# Altium schematic symbol library ic.SchLib: 24 symbols
Pins are listed as number, name and electrical type; pins without a type are passive.

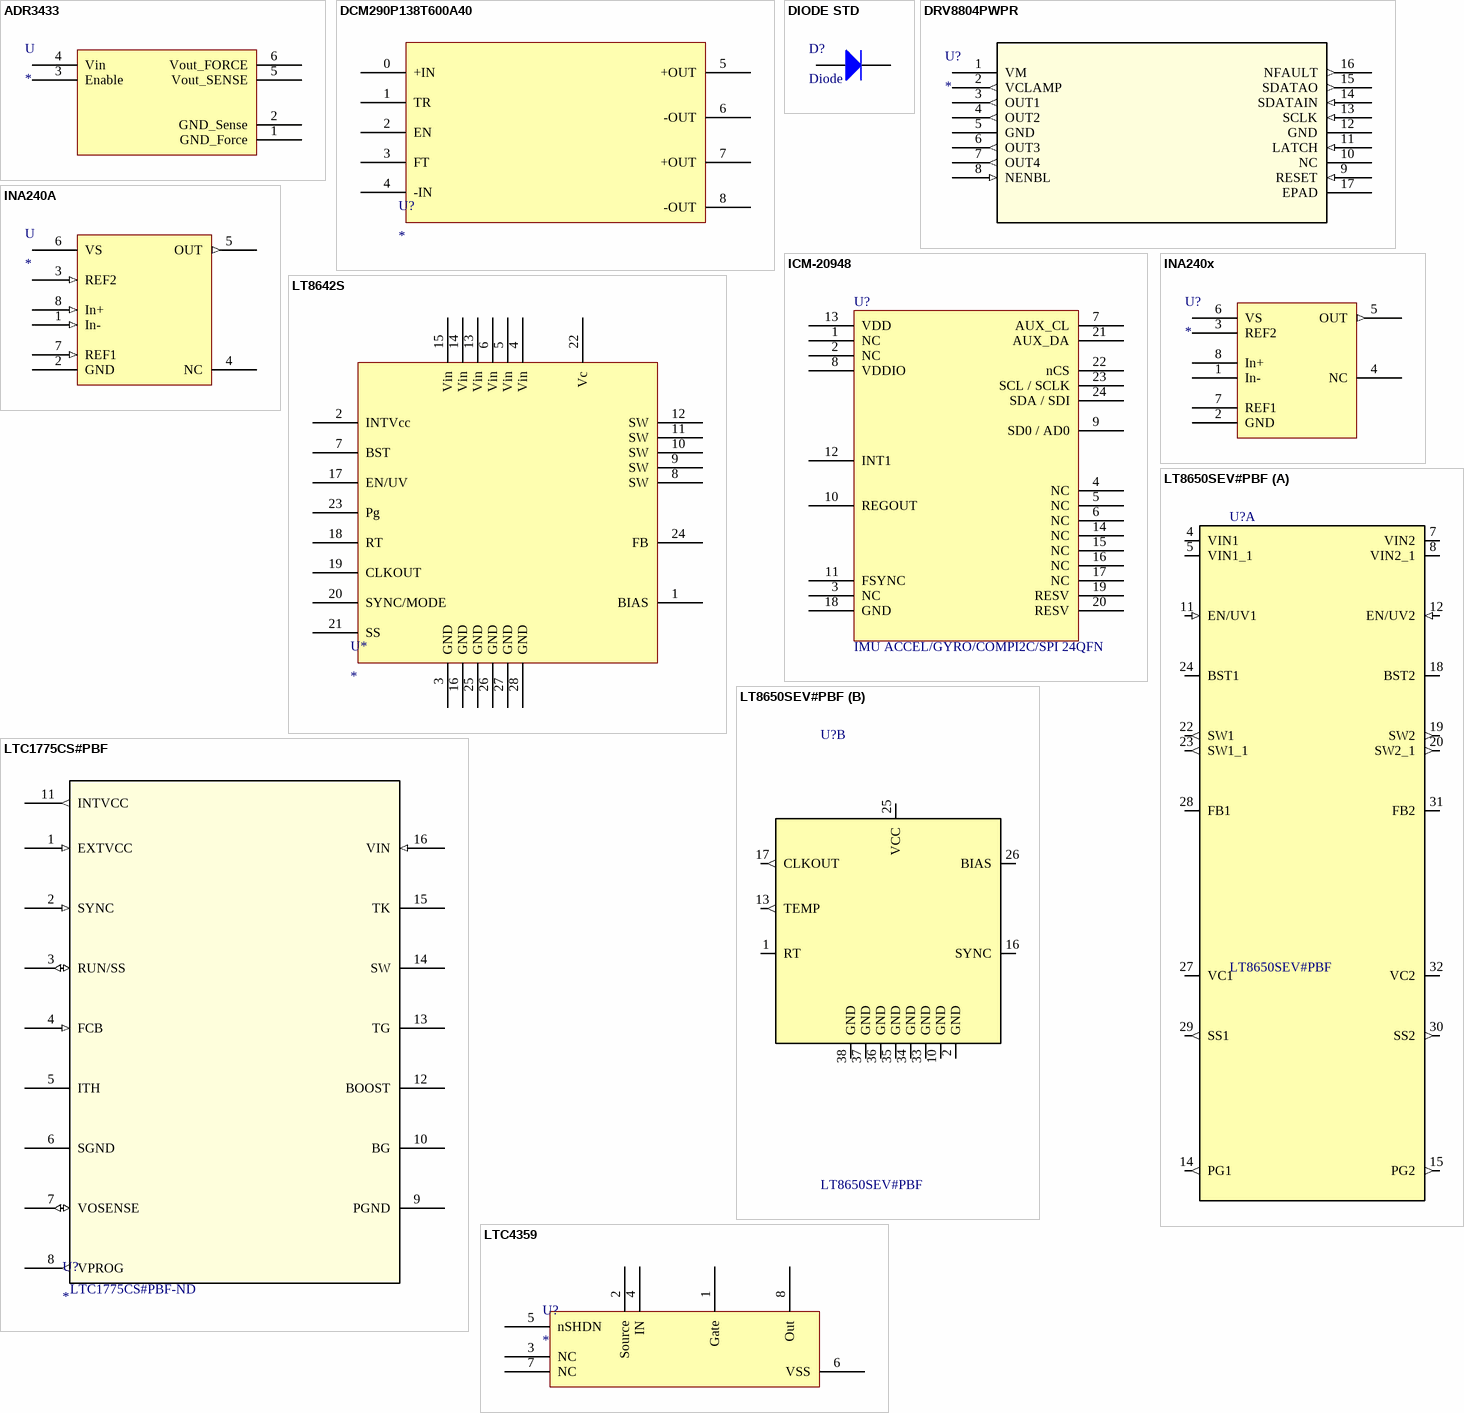
[diagram p0: symbols ADR3433 to LTC4359]

## ADR3433
designator U
IC VREF SERIES 3.3V SOT23-6; Manufacturer: Analog Devices; Manufacturer P/N: ADR3433ARJZ-R7; ComponentLink1Description: Digikey; ComponentLink1URL: https://www.digikey.com/product-detail/en/analog-devices-inc/ADR3433ARJZ-R7/ADR3433ARJZ-R7CT-ND/4909083; Digikey Link: https://www.digikey.com/product-detail/en/analog-devices-inc/ADR3433ARJZ-R7/ADR3433ARJZ-R7CT-ND/4909083; Digikey P/N: ADR3433ARJZ-R7CT-ND
footprint SOT95P280X145-6N (SOT23, 6-Leads, Body 2.90x2.80mm, Pitch 0.95mm, IPC Medium Density)
pins: 1 GND_Force (power), 2 GND_Sense (power), 3 Enable, 4 Vin, 5 Vout_SENSE, 6 Vout_FORCE

## DCM290P138T600A40
designator U?
DC DC CONVERTER 13.8V 600W; Manufacturer: Vicor; Manufacturer P/N: DCM290P138T600A40; Digikey Link: https://www.digikey.com/product-detail/en/vicor-corporation/DCM290P138T600A40/1102-5388-ND/4860626; Digikey P/N: 1102-5388-ND
footprint DCM290y138x600A40
pins: 0 +IN, 1 TR, 2 EN, 3 FT, 4 -IN, 5 +OUT, 6 -OUT, 7 +OUT, 8 -OUT

## DIODE STD
designator D?, comment Diode
DIODE GEN PURP 200V 2A SOD123FL; Manufacturer: ON SEMI; Manufacturer P/N: NHP220SFT3G; Digikey Link: https://www.digikey.com/product-detail/en/on-semiconductor/NHP220SFT3G/NHP220SFT3GOSCT-ND/5801747; Digikey P/N: NHP220SFT3GOSCT-ND
footprint SODFL360X110-2N (SODFL, 2-Leads, Body 1.65x3.60mm, IPC Medium Density)
pins: 1 A, 2 K

## DRV8804PWPR
designator U?
IC MOTOR DRIVER SERIAL 16HTSSOP; Manufacturer: Texas Instruments; Manufacturer P/N: DRV8804PWPR; Built_By: EMA_UL_Team; C: Copyright (C) 2015 Accelerated Designs. All rights reserved; RefDes: RefDes; Type: DEV; Value: Value; Digikey P/N: 296-36584-1-ND; Digikey Link: https://www.digikey.sg/product-detail/en/texas-instruments/DRV8804PWPR/296-36584-1-ND/4341280
footprint PWP16_3P4X2P46-M
pins: 1 VM (power), 2 VCLAMP (out), 3 OUT1 (out), 4 OUT2 (out), 5 GND (power), 6 OUT3 (out), 7 OUT4 (out), 8 NENBL (in), 9 RESET (in), 10 NC, 11 LATCH (in), 12 GND (power), 13 SCLK (in), 14 SDATAIN (in), 15 SDATAO (out), 16 NFAULT (out), 17 EPAD

## ICM-20948
designator U?, comment IMU ACCEL/GYRO/COMPI2C/SPI 24QFN
Manufacturer: TDK InvenSense; Manufacturer P/N: ICM-20948; Digikey Link: https://www.digikey.com/product-detail/en/tdk-invensense/ICM-20948/1428-1123-1-ND/7062698; Digikey P/N: 1428-1123-1-ND
footprint QFN40P300X300X105-25N
footprint QFN40P300X300X105_HS-25N (QFN, 24-Leads, Body 3.00x3.00mm, Pitch 0.40mm, Thermal Pad 1.70x1.54mm, IPC Medium Density)
pins: 1 NC, 2 NC, 3 NC, 4 NC, 5 NC, 6 NC, 7 AUX_CL, 8 VDDIO, 9 SD0 / AD0, 10 REGOUT, 11 FSYNC, 12 INT1, 13 VDD, 14 NC, 15 NC, 16 NC, 17 NC, 18 GND, 19 RESV, 20 RESV, 21 AUX_DA, 22 nCS, 23 SCL / SCLK, 24 SDA / SDI

## INA240A
designator U
IC AMP CURRENT SENSE 8-TSSOP; Manufacturer: TI; Manufacturer P/N: INA240A1PWR; Digikey P/N: 296-45088-1-ND; Digikey Link: https://www.digikey.com/product-detail/en/texas-instruments/INA240A1PWR/296-45088-1-ND/6562101
footprint SOIC127P600X175-8N (SOIC, 8-Leads, Body 4.90x3.90mm, Pitch 1.27mm, IPC Medium Density)
pins: 1 In- (in), 2 GND (power), 3 REF2 (in), 4 NC, 5 OUT (out), 6 VS (power), 7 REF1 (in), 8 In+ (in)

## INA240x
designator U?
IC AMP CURRENT SENSE 8-TSSOP; Manufacturer: TI; Manufacturer P/N: INA240A1PWR; Digikey P/N: 296-45088-1-ND; Digikey Link: https://www.digikey.com/product-detail/en/texas-instruments/INA240A1PWR/296-45088-1-ND/6562101
footprint SOIC127P600X175-8N (SOIC, 8-Leads, Body 4.90x3.90mm, Pitch 1.27mm, IPC Medium Density)
pins: 1 In-, 2 GND (power), 3 REF2, 4 NC, 5 OUT (out), 6 VS (power), 7 REF1, 8 In+

## LT8642S
designator U*
18V, 10A Synchronous / Step-Down Silent Switcher 2
footprint QFN50P400X400X72_HS-25N (QFN, 24-Leads, Body 4.00x4.00mm, Pitch 0.50mm, Thermal Pad 2.45x2.45mm, IPC Medium Density)
pins: 1 BIAS, 2 INTVcc, 3 GND (power), 4 Vin (power), 5 Vin (power), 6 Vin (power), 7 BST, 8 SW, 9 SW, 10 SW, 11 SW, 12 SW, 13 Vin (power), 14 Vin (power), 15 Vin (power), 16 GND (power), 17 EN/UV, 18 RT, 19 CLKOUT, 20 SYNC/MODE, 21 SS, 22 Vc, 23 Pg, 24 FB, 25 GND (power), 26 GND (power), 27 GND (power), 28 GND (power)

## LT8650SEV#PBF
designator U?
LT8650S - Dual Channel 4A, 42V, Synchronous Step-Down Silent Switcher 2 with 6.2ÂµA Quiescent Current; MF: Linear Technology; MP: LT8650SEV#PBF; SnapEDA_Link: https://www.snapeda.com/parts/LT8650SEV%23PBF/Linear%20Technology/Analog%20Devices/view-part/?ref=snap; Digi-Key_Part_Number: LT8650SEV#PBF-ND; Package: LQFN-32 Linear Technology; Digi-Key_Purchase_URL: https://www.digikey.com/product-detail/en/linear-technology-analog-devices/LT8650SEV-PBF/LT8650SEV-PBF-ND/7702365?utm_source=snapeda&utm_medium=aggregator&utm_campaign=symbol; Value: *
footprint QFN50P600X400X103-32N240X440
part A pins: 4 VIN1 (power), 5 VIN1_1 (power), 7 VIN2 (power), 8 VIN2_1 (power), 11 EN/UV1 (in), 12 EN/UV2 (in), 14 PG1 (out), 15 PG2 (out), 18 BST2 (io), 19 SW2 (out), 20 SW2_1 (out), 22 SW1 (out), 23 SW1_1 (out), 24 BST1 (io), 27 VC1 (power), 28 FB1 (io), 29 SS1 (out), 30 SS2 (out), 31 FB2 (io), 32 VC2 (power)
part B pins: 1 RT, 2 GND, 10 GND, 13 TEMP (out), 16 SYNC, 17 CLKOUT (out), 25 VCC, 26 BIAS (io), 33 GND, 34 GND, 35 GND, 36 GND, 37 GND, 38 GND

## LTC1775CS#PBF
designator U?  Supplier Part Number 1: LTC1775CS#PBF-ND
Imported; Manufacturer_Part_Number: LTC1775CS#PBF; Vendor: Linear Technology; RefDes: RefDes; Type: DEV; Value: Value; Supplier 1: Digi-Key
footprint SO-16_S
pins: 1 EXTVCC (in), 2 SYNC (in), 3 RUN/SS (io), 4 FCB (in), 5 ITH, 6 SGND (power), 7 VOSENSE (io), 8 VPROG (out), 9 PGND (power), 10 BG, 11 INTVCC (out), 12 BOOST, 13 TG, 14 SW, 15 TK, 16 VIN (in)

## LTC4359
designator U?
IC OR CTRLR N+1 8MSOP; Manufacturer: Analog Devices; Manufacturer P/N: LTC4359; Digikey Link: https://www.digikey.com/product-detail/en/linear-technology-analog-devices/LTC4359HMS8-TRPBF/LTC4359HMS8-TRPBFCT-ND/8275335; Digikey P/N: LTC4359HMS8#TRPBFCT-ND
footprint 8SOP
pins: 1 Gate, 2 Source, 3 NC, 4 IN, 5 nSHDN, 6 VSS, 7 NC, 8 Out

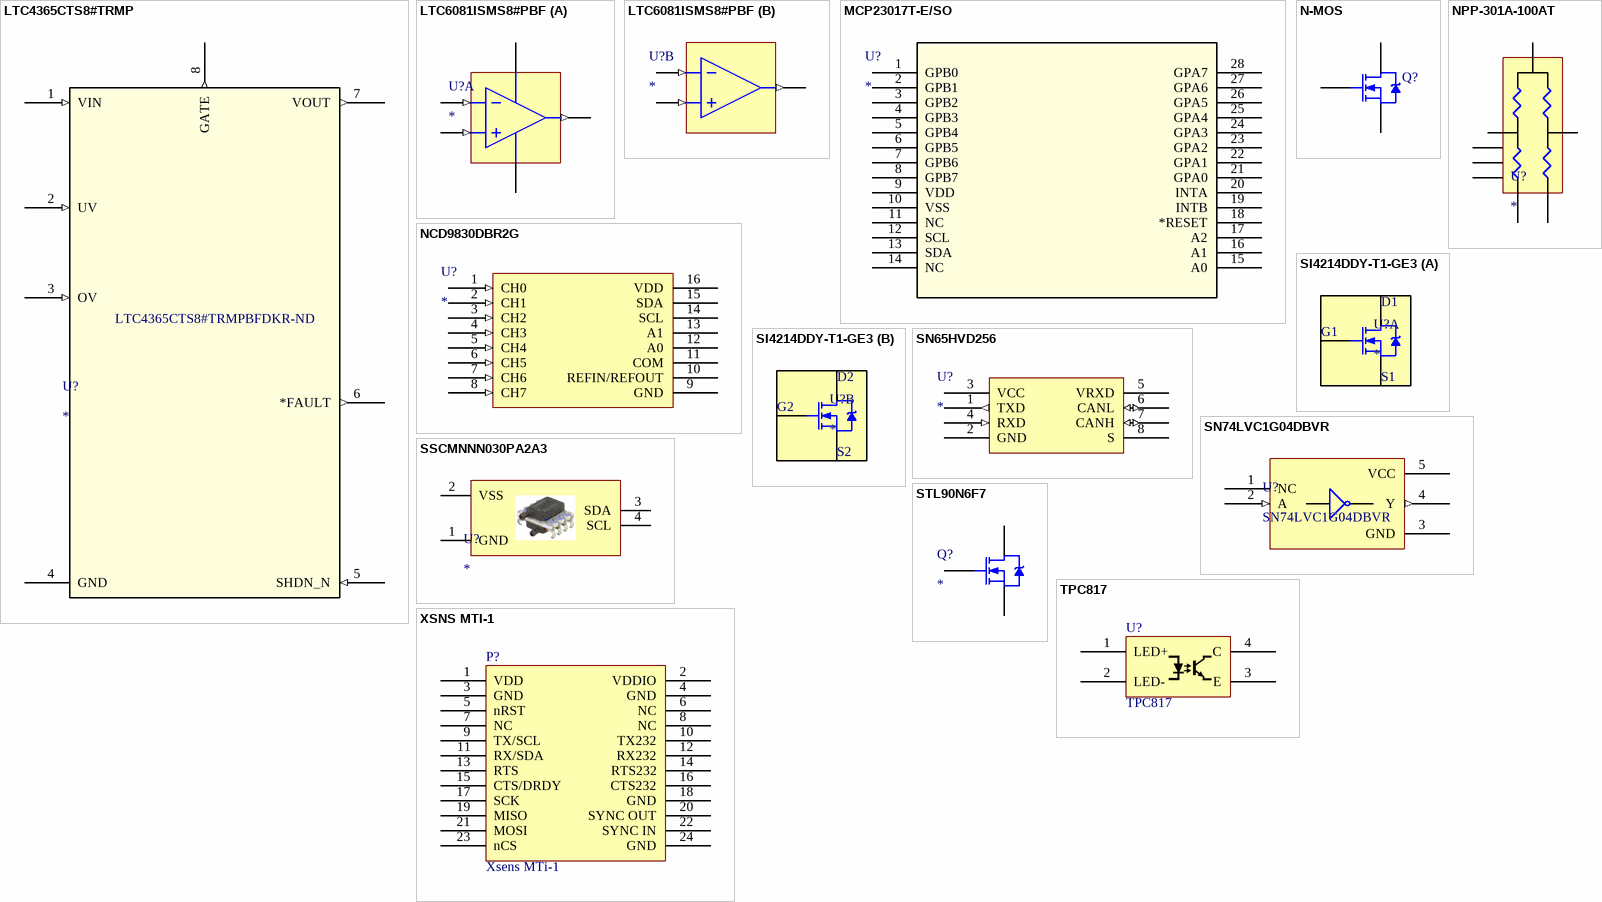
[diagram p1: symbols LTC4365CTS8#TRMP to XSNS MTI-1]

## LTC4365CTS8#TRMP
designator U?  Supplier Part Number 1: LTC4365CTS8#TRMPBFDKR-ND
Overvoltage, / Undervoltage and Reverse / Supply Protection Controller; Manufacturer_Part_Number: LTC4365CTS8#TRMPBF; Vendor: Linear Technology; RefDes: RefDes; Type: DEV; Value: Value; Supplier 1: Digi-Key
footprint TSOT-23_TS8
pins: 1 VIN (in), 2 UV (in), 3 OV (in), 4 GND (power), 5 SHDN_N (in), 6 *FAULT (out), 7 VOUT (out), 8 GATE (out)

## LTC6081ISMS8#PBF
designator U?
IC OPAMP GP 3.5MHZ RRO 8MSOP; Manufacturer: Linear Technology; Manufacturer P/N: LTC6081IMS8#PBF; Digikey Link: https://www.digikey.com/product-detail/en/linear-technology-analog-devices/LTC6081IMS8-PBF/LTC6081IMS8-PBF-ND/1650931; Digikey P/N: LTC6081IMS8#PBF-ND
footprint TSOP65P490X110-8N (TSOP, 8-Leads, Body 3.00x3.00mm, Pitch 0.65mm, IPC Medium Density)
part A pins: 1 OUT (out), 2 IN- (in), 3 IN+ (in), 4 V- (power), 8 V+ (power)
part B pins: 5 IN+ (in), 6 IN- (in), 7 OUT (out)

## MCP23017T-E/SO
designator U?
IC I/O EXPANDER I2C 16B 28SOIC; Manufacturer: Microchip; Manufacturer P/N: MCP23017T-E/SO; Digikey P/N: MCP23017T-E/SOCT-ND; Digikey Link: https://www.digikey.com/product-detail/en/microchip-technology/MCP23017T-E-SO/MCP23017T-E-SOCT-ND/5358289
footprint SOIC28-W_MC-M
pins: 1 GPB0, 2 GPB1, 3 GPB2, 4 GPB3, 5 GPB4, 6 GPB5, 7 GPB6, 8 GPB7, 9 VDD, 10 VSS, 11 NC, 12 SCL, 13 SDA, 14 NC, 15 A0, 16 A1, 17 A2, 18 *RESET, 19 INTB, 20 INTA, 21 GPA0, 22 GPA1, 23 GPA2, 24 GPA3, 25 GPA4, 26 GPA5, 27 GPA6, 28 GPA7

## N-MOS
designator Q?
N-Channel Power MOSFET, 12 A, 60 V; Manufacturer: ON SEMI; Manufacturer P/N: NTD3055L104T4G; Digikey Link: https://www.digikey.com/product-detail/en/on-semiconductor/NTD3055L104T4G/NTD3055L104T4GOSDKR-ND/1749196; Digikey P/N: NTD3055L104T4GOSDKR-ND
footprint DPAK228P991X238-3N (D-PAK, 3-Pads, Body 6.21x6.54mm (max), IPC Medium Density)
pins: 1 G, 3 S, 4 D

## NCD9830DBR2G
designator U?
IC ADC 8BIT 8CH I2C 16TSSOP; Manufacturer: ON Semiconductor; Manufacturer P/N: NCD9830DBR2G; Digikey P/N: NCD9830DBR2GOSCT-ND; Digikey Link: https://www.digikey.com/product-detail/en/on-semiconductor/NCD9830DBR2G/NCD9830DBR2GOSCT-ND/9086945; Cost: 2.70
pins: 1 CH0 (in), 2 CH1 (in), 3 CH2 (in), 4 CH3 (in), 5 CH4 (in), 6 CH5 (in), 7 CH6 (in), 8 CH7 (in), 9 GND (power), 10 REFIN/REFOUT (power), 11 COM (power), 12 A0, 13 A1, 14 SCL, 15 SDA, 16 VDD (power)

## NPP-301A-100AT
designator U?
SENSOR PRES 15PSIA SO8 SMD; Manufacturer: Amphenol Advanced Sensors; Manufacturer P/N: NPP-301A-100AT; Pressure Range: 0-15PSI; Digikey Link: https://www.digikey.com/product-detail/en/amphenol-advanced-sensors/NPP-301A-100AT/235-1492-1-ND/7322895; Digikey P/N: 235-1492-1-ND
footprint SOIC127P610X280-8N (SOIC, 8-Leads, Body 5.10x4.10mm, Pitch 1.27mm, IPC Medium Density)
pins: 1, 2, 3, 4, 5, 6, 7, 8

## SI4214DDY-T1-GE3
designator U?
Mosfet Array 2 N-Channel (Dual) 30V 8.5A 3.1W Surface Mount 8-SO; Manufacturer_Part_Number: SI4214DDY-T1-GE3; Vendor: Vishay; Rds(on): 0.0195; I_D (A): 8.5; RefDes: U; Type: DEV; Value: Value; Digikey P/N: SI4214DDY-T1-GE3CT-ND; ComponentLink1Description: Digikey; ComponentLink1URL: https://www.digikey.com/product-detail/en/vishay-siliconix/SI4214DDY-T1-GE3/SI4214DDY-T1-GE3CT-ND/3305376; V_DS: 30V; ComponentLink2Description: Datasheet; ComponentLink2URL: http://www.vishay.com/docs/67907/si4214ddy-t1-e3.pdf
footprint SOIC-8_SI-L
part A pins: 1 S1, 2 G1, 7 D1, 8 D1
part B pins: 3 S2, 4 G2, 5 D2, 6 D2

## SN65HVD256
designator U?
IC TXRX CAN 5V HS 8SOIC; Manufacturer: TI; Manufacturer P/N: SN65HVD256DR; Digikey P/N: 296-30093-1-ND; Digikey Link: https://www.digikey.com/product-detail/en/texas-instruments/SN65HVD256DR/296-30093-1-ND/2798832
footprint SOIC127P630X175-8N (SOIC, 8-Leads, Body 4.90x3.90mm, Pitch 1.27mm, IPC Medium Density)
footprint SOIC127P610X280-8N (SOIC, 8-Leads, Body 5.10x4.10mm, Pitch 1.27mm, IPC Medium Density)
pins: 1 TXD (out), 2 GND (power), 3 VCC (power), 4 RXD (in), 5 VRXD (power), 6 CANL (io), 7 CANH (io), 8 S

## SN74LVC1G04DBVR
designator U?
Manufacturer: TI; Digikey Link: https://www.digikey.com/product-detail/en/texas-instruments/SN74LVC1G04DBVR/296-11599-1-ND/385738; Manufacturer P/N: SN74LVC1G04DBVR; Digikey P/N: 296-11599-1-ND
footprint DBV5-L
pins: 1 NC, 2 A (in), 3 GND (power), 4 Y (out), 5 VCC (power)

## SSCMNNN030PA2A3
designator U?
Honeywell Digital Pressure Sensor; ComponentLink1Description: Part; ComponentLink1URL: https://www.digikey.com/product-detail/en/honeywell-sensing-and-productivity-solutions/SSCMNNN030PA2A3/480-6407-ND/2416123; ComponentLink2Description: Datasheet; ComponentLink2URL: https://sensing.honeywell.com/index.php?ci_id=151134
footprint 8-SMT
pins: 1 GND (power), 2 VSS (power), 3 SDA, 4 SCL

## STL90N6F7
designator Q?
MOSFET N-CH 60V 90A F7 8PWRFLAT; Manufacturer: 497-15913-2-ND; Manufacturer P/N: STL90N6F7; Digikey Link: https://www.digikey.com/product-detail/en/stmicroelectronics/STL90N6F7/497-15913-1-ND/5357115; Digikey P/N: 497-15913-2-ND
footprint DPAK228P991X238-4N (D-PAK, 4-Pads, Body 6.21x6.54mm (max), IPC Medium Density)
pins: 1 S, 2 S, 3 S, 4 G, 5 D, 6 D, 7 D, 8 D

## TPC817
designator U?
OPTOISO 5KV TRANS 4SOP; Manufacturer: Taiwan Semi; Manufacturer P/N: TPC817S1B RAG; Digikey Link: https://www.digikey.com/product-detail/en/taiwan-semiconductor-corporation/TPC817S1B-RAG/TPC817S1BRAGCT-ND/7359679; Digikey P/N: TPC817S1BRAGCT-ND
footprint SOT200P1005X328-5N (SOT23, 5-Leads, Body 4.60x10.05mm, Pitch 2.00mm, IPC Medium Density)
pins: 1 LED+, 2 LED-, 3 E, 4 C

## XSNS MTI-1
designator P?  (value not drawn)
MTi-3-8A7G6 3D AHRS/VRU/IMU Module; Manufacturer: Xsens; Manufacturer P/N: MTI-3-DK; Digikey Link: https://www.mouser.com/ProductDetail/Xsens/MTI-3-DK?qs=55YtniHzbhBGvlIRYNoxgQ%3d%3d; Digikey P/N: 512-MTI-3-DK
footprint MTI-3 (PinHeader 2x12 TH Pitch 2.54mm)
pins: 1 VDD, 2 VDDIO, 3 GND, 4 GND, 5 nRST, 6 NC, 7 NC, 8 NC, 9 TX/SCL, 10 TX232, 11 RX/SDA, 12 RX232, 13 RTS, 14 RTS232, 15 CTS/DRDY, 16 CTS232, 17 SCK, 18 GND, 19 MISO, 20 SYNC OUT, 21 MOSI, 22 SYNC IN, 23 nCS, 24 GND
text: Xsens MTi-1